# Altium schematic symbol library DRV8313.SchLib: 1 symbol
Pins are listed as number, name and electrical type; pins without a type are passive.

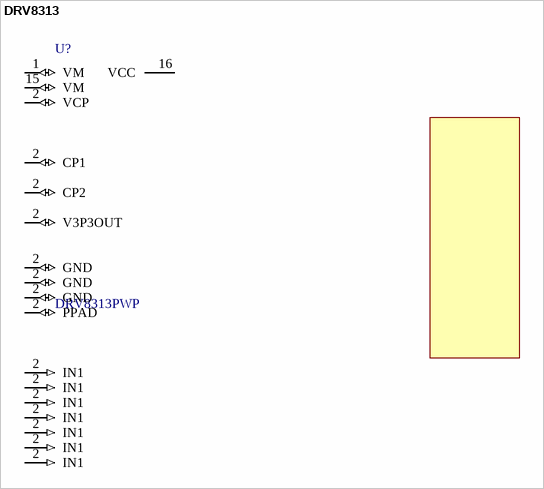
[diagram p0: symbol DRV8313]

## DRV8313
designator U?, comment DRV8313PWP
DRV8313; PDF: http://www.ti.com/lit/ds/symlink/drv8313.pdf; BUY_LINK: http://www.digikey.com/product-detail/en/DRV8313PWP/296-35540-5-ND/3790947; ID: DRV8313PWP; PRICE: 6.80000
pins: 1 VM (io), 2 VCP (io), 2 CP1 (io), 2 CP2 (io), 2 V3P3OUT (io), 2 GND (io), 2 GND (io), 2 GND (io), 2 PPAD (io), 2 IN1 (in), 2 IN1 (in), 2 IN1 (in), 2 IN1 (in), 2 IN1 (in), 2 IN1 (in), 2 IN1 (in), 15 VM (io), 16 VCC (power)